# Altium schematic symbol library CL31B106KAHNNNE.SchLib: 1 symbol
Pins are listed as number, name and electrical type; pins without a type are passive.

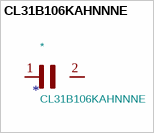
[diagram p0: symbol CL31B106KAHNNNE]

## CL31B106KAHNNNE
designator *  value CL31B106KAHNNNE
\n                        \n                            CL31 Series 10 uF 25 V ±10 % Tolerance X7R SMT Multilayer Ceramic Capacitor\n                        \n; L1_min: 0.2; E_min: 1.4; MF: Samsung Electro-Mechanics; D_min: 3.0; D_nom: 3.2; E_max: 1.8; L_max: 0.8; L1_nom: 0.5; D_max: 3.4; E_nom: 1.6; Footprint: CL31B106KAHNNNE:CAPC3216X180N; Check_prices: https://www.snapeda.com/parts/CL31B106KAHNNNE/Samsung/view-part/?ref=eda; Package: SMD-2 Samsung; SnapEDA_Link: https://www.snapeda.com/parts/CL31B106KAHNNNE/Samsung/view-part/?ref=snap; STANDARD: IPC 7351B; L_min: 0.2; A_max: 1.8; Description_: \n                        \n                            CL31 Series 10 uF 25 V ±10 % Tolerance X7R SMT Multilayer Ceramic Capacitor\n                        \n; A_nom: 1.8; L1_max: 0.8; A_min: 1.8; Availability: In Stock; MP: CL31B106KAHNNNE; MANUFACTURER: Samsung Electro-Mechanics; Price: None; L_nom: 0.5
footprint CAPC3216X180N
pins: 1, 2